# Altium footprint library 常用电容电阻电感.PCBLIB: 79 footprints (part 4 of 5)
Each footprint in its own frame and in the unit in brackets; x right, y up, seen from the top. Pads: shape width x height; smd on the part's side, far side on the other; paste and mask are expansions set on the pad; w line width, h text height; cw(c..) or ccw(c..) is an arc to the next point about the centre after c.
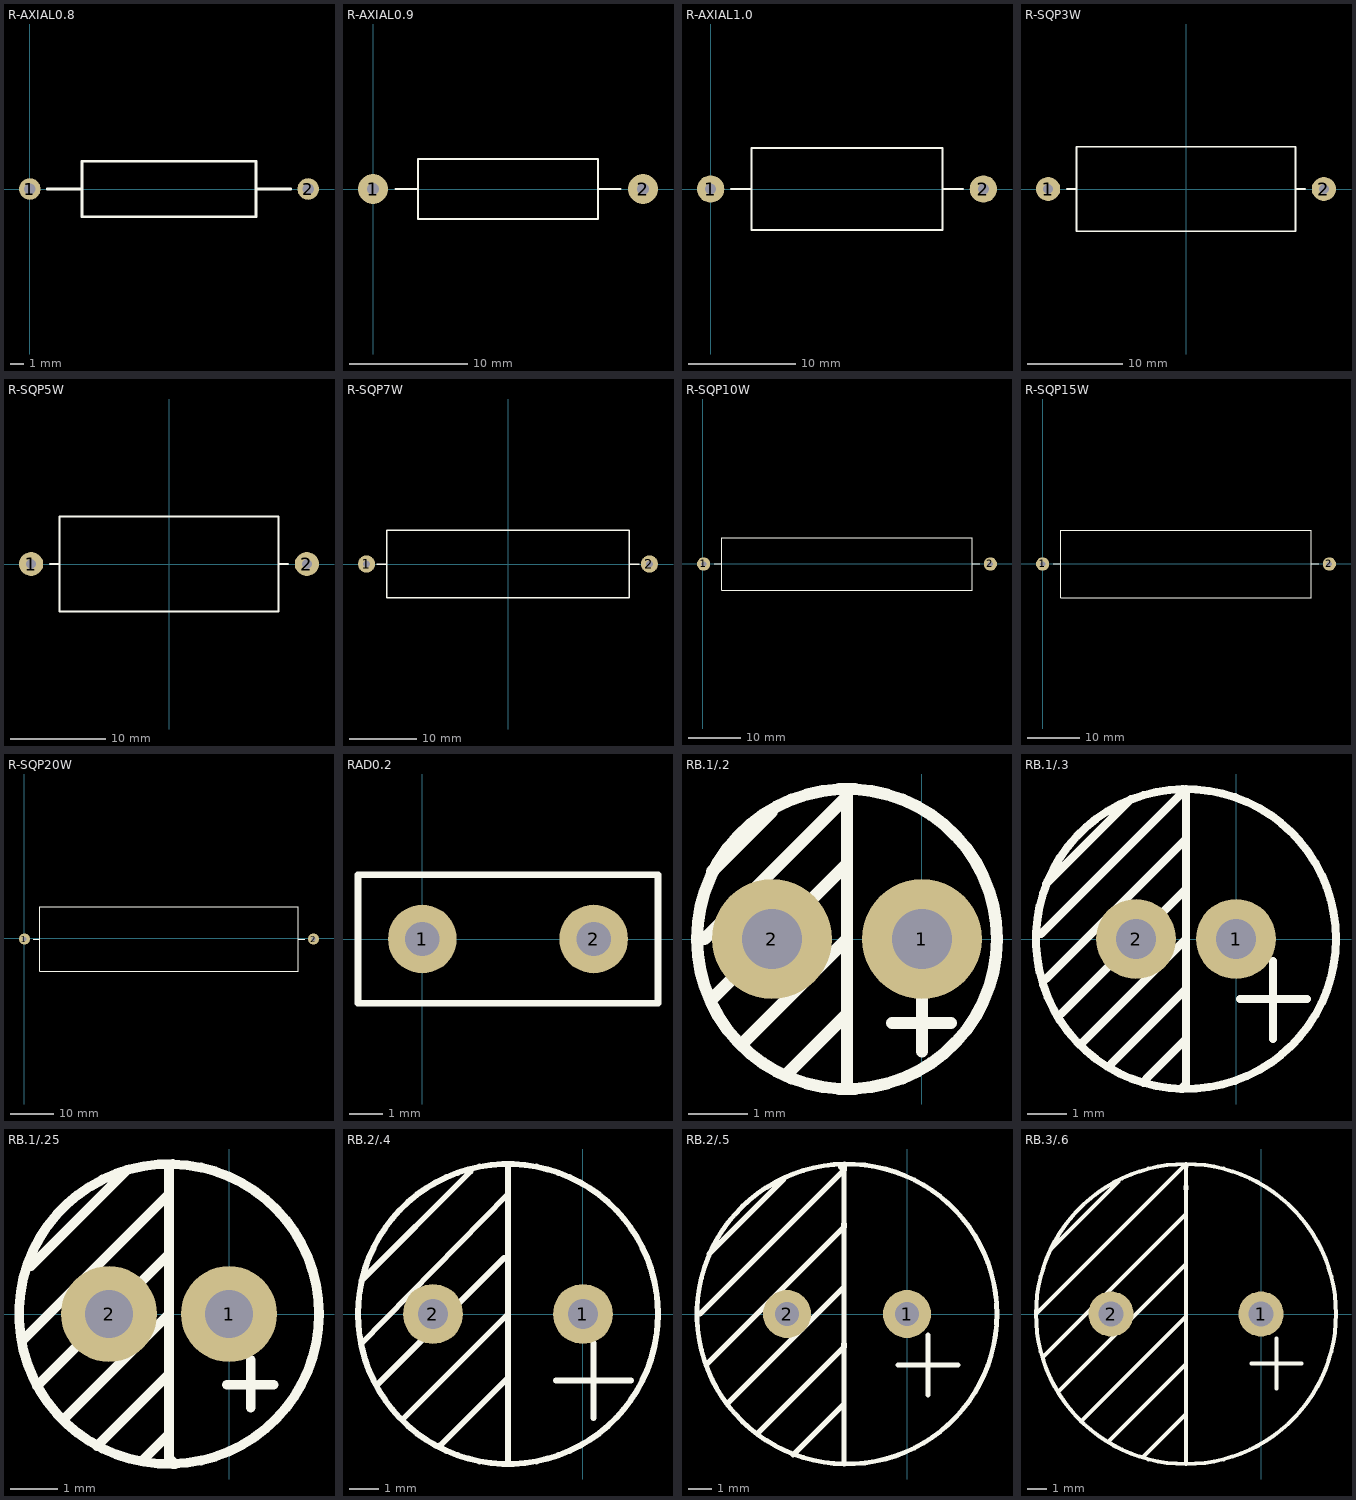
[diagram p3: the footprints below, top view; thin cyan lines are the x and y axes]

## R-AXIAL0.8 [mil]
pads (2):
  round 62 hole 32: 1(0,0) 2(800,0)
TopOverlay:
  lines w8: 50,0 150,0 ; 650,0 750,0 ; 150,-80 650,-80 650,80 150,80 150,-80

## R-AXIAL0.9 [mil]
pads (2):
  round 100 hole 40: 1(0,0) 2(900,0)
TopOverlay:
  lines w8: 75,0 150,0 ; 750,0 825,0 ; 150,-100 150,100 750,100 750,-100 150,-100

## R-AXIAL1.0 [mil]
pads (2):
  round 100 hole 40: 1(0,0) 2(1000,0)
TopOverlay:
  lines w8: 75,0 150,0 ; 850,0 925,0 ; 150,-150 150,150 850,150 850,-150 150,-150

## R-SQP3W [mil]
pads (2):
  round 100 hole 40: 1(-570.87,0) 2(570.87,0)
TopOverlay:
  lines w8: -492.13,0 -452.76,0 ; 452.76,0 492.13,0 ; -452.76,-175 452.76,-175 452.76,175 -452.76,175 -452.76,-175

## R-SQP5W [mil]
pads (2):
  round 100 hole 40: 1(-570.87,0) 2(570.87,0)
TopOverlay:
  lines w8: -492.13,0 -452.76,0 ; 452.76,0 492.13,0 ; -452.76,-196.85 -452.76,196.85 452.76,196.85 452.76,-196.85 -452.76,-196.85

## R-SQP7W [mil]
pads (2):
  round 100 hole 40: 1(-826.77,0) 2(826.77,0)
TopOverlay:
  lines w8: -767.72,0 -708.66,0 ; 708.66,0 767.72,0 ; -708.66,-196.85 708.66,-196.85 708.66,196.85 -708.66,196.85 -708.66,-196.85

## R-SQP10W [mil]
pads (2):
  round 100 hole 40: 1(4.82,-2.5) 2(2170.18,-2.5)
TopOverlay:
  lines w8: 83.56,-2.5 142.62,-2.5 ; 2032.38,-2.5 2091.44,-2.5 ; 142.62,-199.35 142.62,194.35 2032.38,194.35 2032.38,-199.35 142.62,-199.35

## R-SQP15W [mil]
pads (2):
  round 100 hole 40: 1(-0.18,-2.5) 2(2165.18,-2.5)
TopOverlay:
  lines w8: 78.56,-2.5 137.62,-2.5 ; 2027.38,-2.5 2086.44,-2.5 ; 137.62,-258.41 137.62,253.41 2027.38,253.41 2027.38,-258.41 137.62,-258.41

## R-SQP20W [mil]
pads (2):
  round 100 hole 40: 1(3.6,-5) 2(2641.4,-5)
TopOverlay:
  lines w8: 82.34,-5 141.4,-5 ; 2503.6,-5 2562.66,-5 ; 141.4,-300.28 2503.6,-300.28 2503.6,290.28 141.4,290.28 141.4,-300.28

## RAD0.2 [mil]
pads (2):
  round 80 hole 40: 1(0,0) 2(200,0)
TopOverlay:
  lines w8: -75,-75 275,-75 275,75 -75,75 -75,-75

## RB.1/.2 [mil]
pads (2):
  round 80 hole 40: 1(0,0) 2(-100,0)
TopOverlay:
  circle w8: c-50,0 r100
  lines w8: -145,0 -50,95 -50,-95 ; -140,-40 -50,50 ; -140,45 -100,85 ; -120,-70 -50,0 ; -90,-90 -50,-50 ; -20,-56 19.37,-56 ; 0,-75 0,-35

## RB.1/.3 [mil]
pads (2):
  round 80 hole 40: 1(0,0) 2(-100,0)
TopOverlay:
  circle w8: c-50,0 r150
  lines w8: -195,5 -50,150 -50,-145 -55,-150 ; -190,-40 -50,100 ; -190,55 -105,140 ; -175,-75 -50,50 ; -155,-105 -50,0 ; -125,-125 -50,-50 ; -90,-140 -50,-100 ; 4,-60 71,-60 ; 37,-100 37,-22

## RB.1/.25 [mil]
pads (2):
  round 80 hole 40: 1(0,0) 2(-100,0)
TopOverlay:
  circle w8: c-50,0 r125
  lines w8: -170,-20 -50,100 ; -165,40 -85,120 ; -160,-60 -50,50 ; -135,-85 -50,0 ; -110,-110 -50,-50 ; -70,-120 -50,-100 -50,-105 ; -50,120 -50,-120 -45,-125 ; -2,-59 37.37,-59 ; 18,-78 18,-38

## RB.2/.4 [mil]
pads (2):
  round 80 hole 40: 1(0,0) 2(-200,0)
TopOverlay:
  circle w8: c-100,0 r200
  lines w8: -296,-40 -100,160 ; -295,45 -150,190 ; -275,-95 -105,75 -100,75 ; -240,-140 -100,0 ; -190,-175 -100,-85 ; -100,-200 -100,200 ; -36,-89 64,-89 ; 14,-139 14,-39

## RB.2/.5 [mil]
pads (2):
  round 80 hole 40: 1(0,0) 2(-200,0)
TopOverlay:
  circle w8: c-100,0 r250
  lines w8: -345,0 -105,240 ; -335,-85 -105,145 ; -330,100 -205,225 ; -300,-150 -105,45 ; -250,-200 -105,-55 ; -190,-235 -105,-150 ; -105,-250 -105,245 ; -15,-85 85,-85 ; 35,-135 35,-35
  lines w10: -110,245 -105,245 -105,240 ; -105,-55 -105,-50 ; -105,145 -105,150

## RB.3/.6 [mil]
pads (2):
  round 90 hole 50: 1(0,0) 2(-300,0)
TopOverlay:
  circle w8: c-150,0 r300
  lines w8: -450,0 -155,295 ; -435,-85 -150,200 ; -420,130 -285,265 ; -405,-155 -150,100 ; -360,-215 -150,-5 ; -305,-255 -150,-100 ; -235,-285 -150,-200 ; -150,-300 -150,295 ; -19,-99 81,-99 ; 31,-149 31,-49
  lines w10: -155,295 -150,295 ; -150,250 -150,255